# EAGLE library part AB0805 (library AB08XX)
AB08X5 Real-Time Clock Family: I2C Version The ABRACON AB08X5 Real-Time Clock family provides a groundbreaking combination of ultra-low power coupled with a highly sophisticated feature set. With power requirements significantly lower than any other industry RTC (as low as 14 nA), these are the first semiconductors based on innovative SPOTTM (Subthreshold Power Optimized Technology) CMOS platform. The AB08X5 includes on-chip oscillators to provide minimum power consumption, full RTC functions including battery backup and programmable counters and alarms for timer and watchdog functions, and either an I2C or SPI serial interface for communication with a host controller.
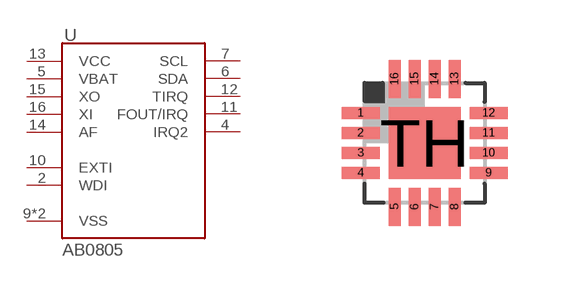
[diagram p1: symbol with the pads of QFN16; footprint QFN16]

Designator prefix U

## AB0805 (MOUSER: 815-AB0805-T3)  [QFN16]
2  WDI
4  IRQ2
5  VBAT
6  SDA
7  SCL
9  VSS
10  EXTI
11  FOUT/IRQ
12  TIRQ
13  VCC
14  AF
15  XO
16  XI
TH  VSS

## Footprint QFN16 (pad centres in mm)
3.0mm QFN-16 for AB08XX
smd 0.95 x 0.3: 1 -1.6,0.75; 2 -1.6,0.25; 3 -1.6,-0.25; 4 -1.6,-0.75; 9 1.6,-0.75; 10 1.6,-0.25; 11 1.6,0.25; 12 1.6,0.75
smd 0.3 x 0.95: 5 -0.75,-1.6; 6 -0.25,-1.6; 7 0.25,-1.6; 8 0.75,-1.6; 13 0.75,1.6; 14 0.25,1.6; 15 -0.25,1.6; 16 -0.75,1.6
smd 1.8 x 1.8: TH 0,0